# Altium schematic symbol library SCH - RF - FREQUENCY SYNTH - STMICRO STW81200.SCHLIB: 1 symbol
Pins are listed as number, name and electrical type; pins without a type are passive.

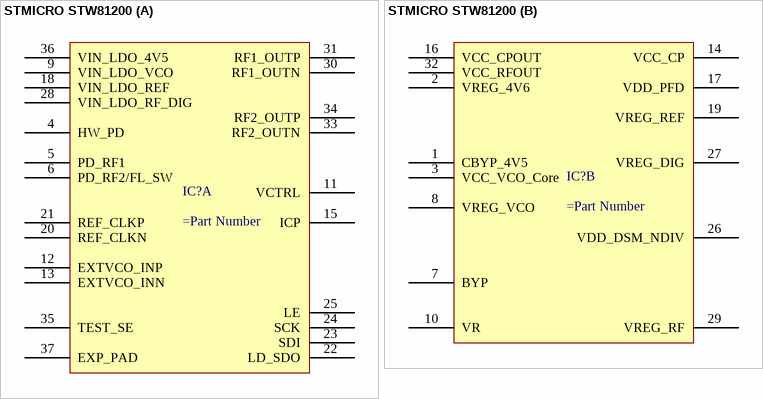
[diagram p0: symbol STMICRO STW81200]

## STMICRO STW81200
designator IC?
part A pins: 4 HW_PD, 5 PD_RF1, 6 PD_RF2/FL_SW, 9 VIN_LDO_VCO, 11 VCTRL, 12 EXTVCO_INP, 13 EXTVCO_INN, 15 ICP, 18 VIN_LDO_REF, 20 REF_CLKN, 21 REF_CLKP, 22 LD_SDO, 23 SDI, 24 SCK, 25 LE, 28 VIN_LDO_RF_DIG, 30 RF1_OUTN, 31 RF1_OUTP, 33 RF2_OUTN, 34 RF2_OUTP, 35 TEST_SE, 36 VIN_LDO_4V5, 37 EXP_PAD
part B pins: 1 CBYP_4V5, 2 VREG_4V6, 3 VCC_VCO_Core, 7 BYP, 8 VREG_VCO, 10 VR, 14 VCC_CP, 16 VCC_CPOUT, 17 VDD_PFD, 19 VREG_REF, 26 VDD_DSM_NDIV, 27 VREG_DIG, 29 VREG_RF, 32 VCC_RFOUT